# EAGLE library part 30PIN (library connector)
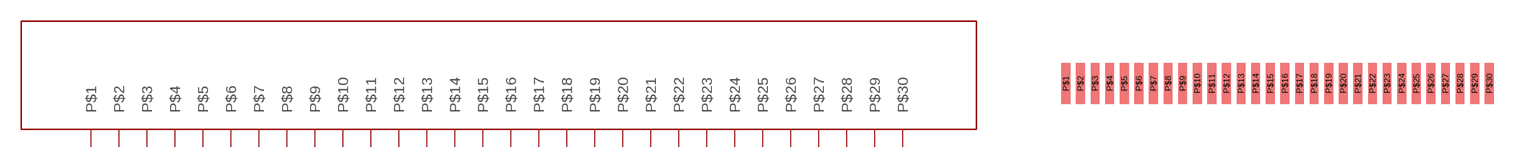
[diagram p1: symbol with the pads of 30PIN; footprint 30PIN]

Designator prefix H

## 30PIN  [30PIN]
P$1  P$1
P$2  P$2
P$3  P$3
P$4  P$4
P$5  P$5
P$6  P$6
P$7  P$7
P$8  P$8
P$9  P$9
P$10  P$10
P$11  P$11
P$12  P$12
P$13  P$13
P$14  P$14
P$15  P$15
P$16  P$16
P$17  P$17
P$18  P$18
P$19  P$19
P$20  P$20
P$21  P$21
P$22  P$22
P$23  P$23
P$24  P$24
P$25  P$25
P$26  P$26
P$27  P$27
P$28  P$28
P$29  P$29
P$30  P$30

## Footprint 30PIN (pad centres in mm)
smd 0.3 x 1.4: P$1 -7.5,0.1; P$2 -7,0.1; P$3 -6.5,0.1; P$4 -6,0.1; P$5 -5.5,0.1; P$6 -5,0.1; P$7 -4.5,0.1; P$8 -4,0.1; P$9 -3.5,0.1; P$10 -3,0.1; P$11 -2.5,0.1; P$12 -2,0.1; P$13 -1.5,0.1; P$14 -1,0.1; P$15 -0.5,0.1; P$16 0,0.1; P$17 0.5,0.1; P$18 1,0.1; P$19 1.5,0.1; P$20 2,0.1; P$21 2.5,0.1; P$22 3,0.1; P$23 3.5,0.1; P$24 4,0.1; P$25 4.5,0.1; P$26 5,0.1; P$27 5.5,0.1; P$28 6,0.1; P$29 6.5,0.1; P$30 7,0.1